# Altium footprint library Nano_D_A29100_PCB.PcbLib: 1 footprints
Each footprint in its own frame and in the unit in brackets; x right, y up, seen from the top. Pads: shape width x height; smd on the part's side, far side on the other; paste and mask are expansions set on the pad; w line width, h text height; cw(c..) or ccw(c..) is an arc to the next point about the centre after c.
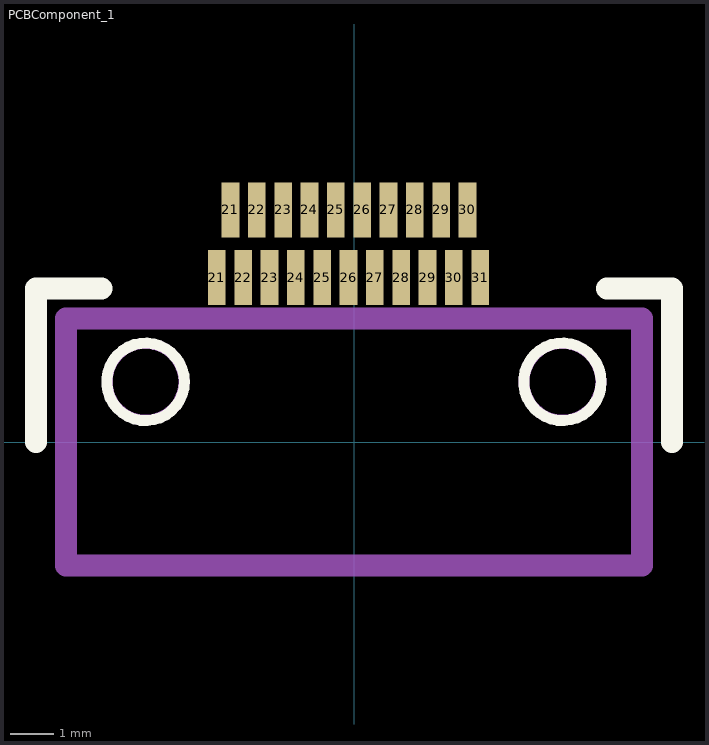
[diagram p0: the footprint, top view; thin cyan lines are the x and y axes]

## PCBComponent_1 [mil]
pads (21):
  rect 16x50 smd: 21(-125,150) 21(-112.56,211.73) 22(-101,150) 22(-88.56,211.73) 23(-77,150) 23(-64.56,211.73) 24(-53,150) 24(-40.56,211.73) 25(-29,150) 25(-16.56,211.73) 26(-5,150) 26(7.44,211.73) 27(19,150) 27(31.44,211.73) 28(43,150) 28(55.44,211.73) 29(67,150) 29(79.44,211.73) 30(91,150) 30(103.44,211.73) 31(115,150)
Top Overlay:
  circle w10: c-190,55 r35.36
  circle w10: c190,55 r35.36
  lines w20: -290,0 -290,85 -290,140 -230,140 ; 230.49,140 290,140 290,85 290,0
Mechanical 1:
  circle w10: c190,55 r35
  circle w10: c-190,55 r35
  lines w20: -262.5,-112.5 262.5,-112.5 262.5,112.5 -262.5,112.5 -262.5,-112.5